# Altium footprint library XT30.PcbLib: 1 footprints
Each footprint in its own frame and in the unit in brackets; x right, y up, seen from the top. Pads: shape width x height; smd on the part's side, far side on the other; paste and mask are expansions set on the pad; w line width, h text height; cw(c..) or ccw(c..) is an arc to the next point about the centre after c.
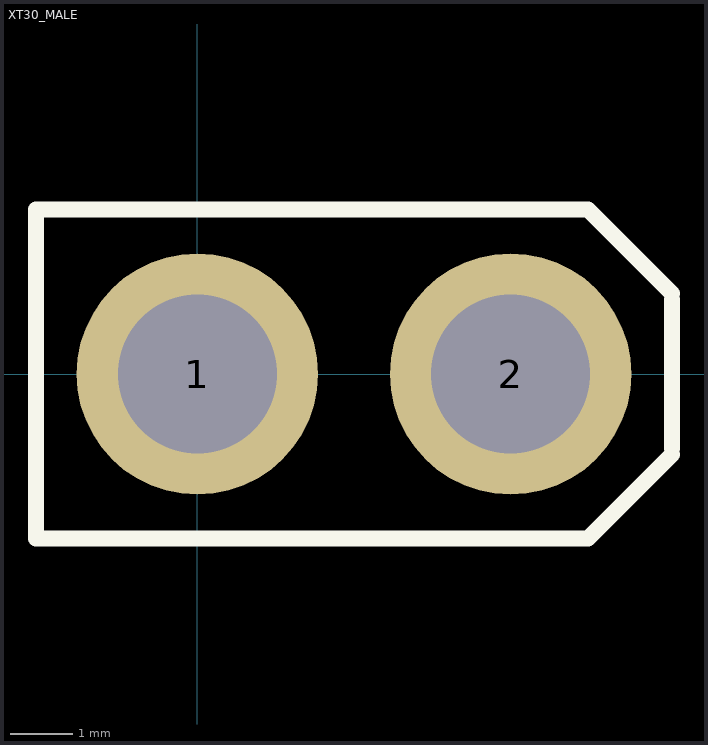
[diagram p0: the footprint, top view; thin cyan lines are the x and y axes]

## XT30_MALE [mil]
pads (2):
  round 151.7 hole 100: 1(0,0) 2(197,0)
Top Overlay:
  lines w10: 298.5,-50.5 245.5,-103.5 -101.5,-103.5 -101.5,0 -101.5,103.5 245.5,103.5 298.5,50.5 ; 298.5,-47 298.5,0 298.5,47
3D body "User Library-XT30.STEP": height 496.06, standoff -114.17, extent -104.72,-105 304.72,103.66